# EAGLE library part OPT3001 (library OPT3001)
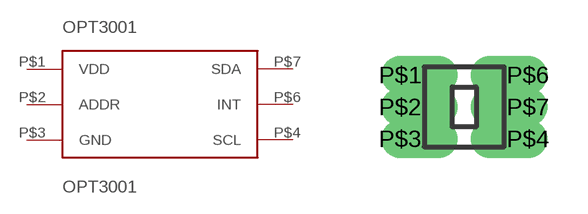
[diagram p0: symbol with the pads of USON(6); footprint USON(6)]

Designator prefix OPT3001

## OPT3001  [USON(6)]
P$1  VDD
P$2  ADDR
P$3  GND
P$4  SCL
P$6  INT
P$7  SDA

## Footprint USON(6) (pad centres in mm)
drill 0.45 pad 0.55 offset: P$1 -0.6,1.8; P$2 -0.6,1; P$3 -0.6,0.2; P$4 2.6,0.2; P$6 2.6,1.8; P$7 2.6,1